# Altium footprint library 6903 6718 xx 72.PcbLib: 12 footprints
Each footprint in its own frame and in the unit in brackets; x right, y up, seen from the top. Pads: shape width x height; smd on the part's side, far side on the other; paste and mask are expansions set on the pad; w line width, h text height; cw(c..) or ccw(c..) is an arc to the next point about the centre after c.
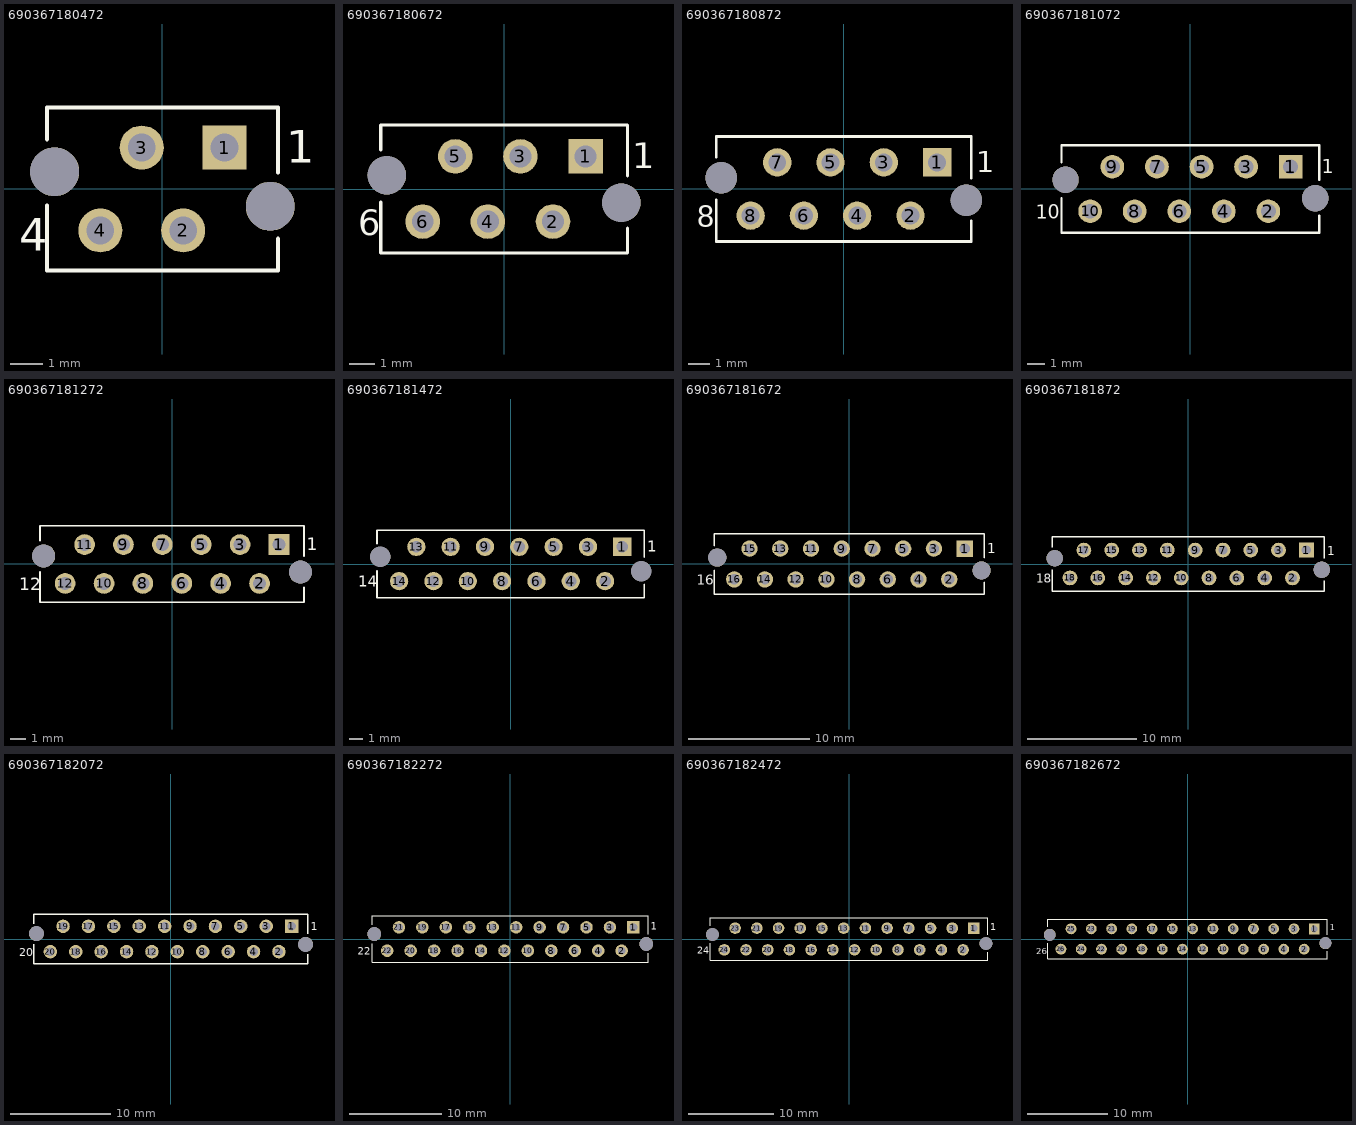
[diagram p0: the footprints below, top view; thin cyan lines are the x and y axes]

## 690367180472 [mm] "4 pins, straight"
height 4
pads (6):
  rect 1.35x1.35 hole 0.85: 1(1.905,1.27)
  round 1.35 hole 0.85: 2(0.635,-1.27) 3(-0.635,1.27) 4(-1.905,-1.27)
  round 1.5 hole 1.5 unplated: ""(-3.305,0.53) ""(3.305,-0.53)
Top Overlay:
  lines w0.127: -3.54,-0.508 -3.54,-2.5 3.54,-2.5 3.54,-1.524 ; -3.54,1.524 -3.54,2.5 3.54,2.5 3.54,0.508
  text "1" at 3.8,0.8 h1
  text "4" at -4.4,-1.9 h1
3D body: height 4.01, standoff -3.09, extent -3.54,-2.5 3.54,2.5

## 690367180672 [mm] "6 pins, straight"
height 4
pads (8):
  rect 1.35x1.35 hole 0.85: 1(3.175,1.27)
  round 1.35 hole 0.85: 2(1.905,-1.27) 3(0.635,1.27) 4(-0.635,-1.27) 5(-1.905,1.27) 6(-3.175,-1.27)
  round 1.5 hole 1.5 unplated: ""(-4.575,0.53) ""(4.575,-0.53)
Top Overlay:
  lines w0.127: -4.81,-0.508 -4.81,-2.5 4.81,-2.5 4.81,-1.524 ; -4.81,1.524 -4.81,2.5 4.81,2.5 4.81,0.508
  text "6" at -5.7,-1.8 h1
  text "1" at 5,0.8 h1
3D body: height 4.01, standoff -3.09, extent -4.81,-2.5 4.81,2.5

## 690367180872 [mm] "8 pins, straight"
height 4
pads (10):
  rect 1.35x1.35 hole 0.85: 1(4.445,1.27)
  round 1.35 hole 0.85: 2(3.175,-1.27) 3(1.905,1.27) 4(0.635,-1.27) 5(-0.635,1.27) 6(-1.905,-1.27) 7(-3.175,1.27) 8(-4.445,-1.27)
  round 1.5 hole 1.5 unplated: ""(-5.845,0.53) ""(5.845,-0.53)
Top Overlay:
  lines w0.127: -6.08,-0.508 -6.08,-2.5 6.08,-2.5 6.08,-1.524 ; -6.08,1.524 -6.08,2.5 6.08,2.5 6.08,0.508
  text "1" at 6.3,0.8 h1
  text "8" at -7,-1.8 h1
3D body: height 4.01, standoff -3.09, extent -6.08,-2.5 6.08,2.5

## 690367181072 [mm] "10 pins, straight"
height 4
pads (12):
  rect 1.35x1.35 hole 0.85: 1(5.715,1.27)
  round 1.35 hole 0.85: 2(4.445,-1.27) 3(3.175,1.27) 4(1.905,-1.27) 5(0.635,1.27) 6(-0.635,-1.27) 7(-1.905,1.27) 8(-3.175,-1.27) 9(-4.445,1.27) 10(-5.715,-1.27)
  round 1.5 hole 1.5 unplated: ""(-7.115,0.53) ""(7.115,-0.53)
Top Overlay:
  lines w0.127: -7.35,-0.508 -7.35,-2.5 7.35,-2.5 7.35,-1.524 ; -7.35,1.524 -7.35,2.5 7.35,2.5 7.35,0.508
  text "10" at -8.8,-1.7 h0.8
  text "1" at 7.5,0.9 h0.8
3D body: height 4.01, standoff -3.09, extent -7.352,-2.5 7.351,2.5

## 690367181272 [mm] "12 pins, straight"
height 4
pads (14):
  rect 1.35x1.35 hole 0.85: 1(6.985,1.27)
  round 1.35 hole 0.85: 2(5.715,-1.27) 3(4.445,1.27) 4(3.175,-1.27) 5(1.905,1.27) 6(0.635,-1.27) 7(-0.635,1.27) 8(-1.905,-1.27) 9(-3.175,1.27) 10(-4.445,-1.27) 11(-5.715,1.27) 12(-6.985,-1.27)
  round 1.5 hole 1.5 unplated: ""(-8.385,0.53) ""(8.385,-0.53)
Top Overlay:
  lines w0.127: -8.62,-0.508 -8.62,-2.5 8.62,-2.5 8.62,-1.524 ; -8.62,1.524 -8.62,2.5 8.62,2.5 8.62,0.508
  text "1" at 8.8,0.9 h0.8
  text "12" at -10,-1.7 h0.8
3D body: height 4.01, standoff -3.09, extent -8.62,-2.5 8.62,2.5

## 690367181472 [mm] "14 pins, straight"
height 4
pads (16):
  rect 1.35x1.35 hole 0.85: 1(8.255,1.27)
  round 1.35 hole 0.85: 2(6.985,-1.27) 3(5.715,1.27) 4(4.445,-1.27) 5(3.175,1.27) 6(1.905,-1.27) 7(0.635,1.27) 8(-0.635,-1.27) 9(-1.905,1.27) 10(-3.175,-1.27) 11(-4.445,1.27) 12(-5.715,-1.27) 13(-6.985,1.27) 14(-8.255,-1.27)
  round 1.5 hole 1.5 unplated: ""(-9.655,0.53) ""(9.655,-0.53)
Top Overlay:
  lines w0.127: -9.89,-0.508 -9.89,-2.5 9.89,-2.5 9.89,-1.524 ; -9.89,1.524 -9.89,2.5 9.89,2.5 9.89,0.508
  text "1" at 10.1,0.9 h0.8
  text "14" at -11.3,-1.7 h0.8
3D body: height 4.01, standoff -3.09, extent -9.89,-2.5 9.89,2.5

## 690367181672 [mm] "16 pins, straight"
height 4
pads (18):
  rect 1.35x1.35 hole 0.85: 1(9.525,1.27)
  round 1.35 hole 0.85: 2(8.255,-1.27) 3(6.985,1.27) 4(5.715,-1.27) 5(4.445,1.27) 6(3.175,-1.27) 7(1.905,1.27) 8(0.635,-1.27) 9(-0.635,1.27) 10(-1.905,-1.27) 11(-3.175,1.27) 12(-4.445,-1.27) 13(-5.715,1.27) 14(-6.985,-1.27) 15(-8.255,1.27) 16(-9.525,-1.27)
  round 1.5 hole 1.5 unplated: ""(-10.925,0.53) ""(10.925,-0.53)
Top Overlay:
  lines w0.127: -11.16,-0.508 -11.16,-2.5 11.16,-2.5 11.16,-1.524 ; -11.16,1.524 -11.16,2.5 11.16,2.5 11.16,0.508
  text "16" at -12.6,-1.7 h0.8
  text "1" at 11.4,0.9 h0.8
3D body: height 4.01, standoff -3.09, extent -11.16,-2.5 11.16,2.5

## 690367181872 [mm] "18 pins, straight"
height 4
pads (20):
  rect 1.35x1.35 hole 0.85: 1(10.795,1.27)
  round 1.35 hole 0.85: 2(9.525,-1.27) 3(8.255,1.27) 4(6.985,-1.27) 5(5.715,1.27) 6(4.445,-1.27) 7(3.175,1.27) 8(1.905,-1.27) 9(0.635,1.27) 10(-0.635,-1.27) 11(-1.905,1.27) 12(-3.175,-1.27) 13(-4.445,1.27) 14(-5.715,-1.27) 15(-6.985,1.27) 16(-8.255,-1.27) 17(-9.525,1.27) 18(-10.795,-1.27)
  round 1.5 hole 1.5 unplated: ""(-12.195,0.53) ""(12.195,-0.53)
Top Overlay:
  lines w0.127: -12.43,-0.508 -12.43,-2.5 12.43,-2.5 12.43,-1.524 ; -12.43,1.524 -12.43,2.5 12.43,2.5 12.43,0.508
  text "18" at -13.9,-1.7 h0.8
  text "1" at 12.7,0.8 h0.8
3D body: height 4.01, standoff -3.09, extent -12.43,-2.5 12.43,2.5

## 690367182072 [mm] "20 pins, straight"
height 4
pads (22):
  rect 1.35x1.35 hole 0.85: 1(12.065,1.27)
  round 1.35 hole 0.85: 2(10.795,-1.27) 3(9.525,1.27) 4(8.255,-1.27) 5(6.985,1.27) 6(5.715,-1.27) 7(4.445,1.27) 8(3.175,-1.27) 9(1.905,1.27) 10(0.635,-1.27) 11(-0.635,1.27) 12(-1.905,-1.27) 13(-3.175,1.27) 14(-4.445,-1.27) 15(-5.715,1.27) 16(-6.985,-1.27) 17(-8.255,1.27) 18(-9.525,-1.27) 19(-10.795,1.27) 20(-12.065,-1.27)
  round 1.5 hole 1.5 unplated: ""(-13.465,0.53) ""(13.465,-0.53)
Top Overlay:
  lines w0.127: -13.7,-0.508 -13.7,-2.5 13.7,-2.5 13.7,-1.524 ; -13.7,1.524 -13.7,2.5 13.7,2.5 13.7,0.508
  text "20" at -15.2,-1.7 h0.8
  text "1" at 14,0.9 h0.8
3D body: height 4.01, standoff -3.09, extent -13.7,-2.5 13.7,2.5

## 690367182272 [mm] "22 pins, straight"
height 4
pads (24):
  rect 1.35x1.35 hole 0.85: 1(13.335,1.27)
  round 1.35 hole 0.85: 2(12.065,-1.27) 3(10.795,1.27) 4(9.525,-1.27) 5(8.255,1.27) 6(6.985,-1.27) 7(5.715,1.27) 8(4.445,-1.27) 9(3.175,1.27) 10(1.905,-1.27) 11(0.635,1.27) 12(-0.635,-1.27) 13(-1.905,1.27) 14(-3.175,-1.27) 15(-4.445,1.27) 16(-5.715,-1.27) 17(-6.985,1.27) 18(-8.255,-1.27) 19(-9.525,1.27) 20(-10.795,-1.27) 21(-12.065,1.27) 22(-13.335,-1.27)
  round 1.5 hole 1.5 unplated: ""(-14.735,0.53) ""(14.735,-0.53)
Top Overlay:
  lines w0.127: -14.97,-0.508 -14.97,-2.5 14.97,-2.5 14.97,-1.524 ; -14.97,1.524 -14.97,2.5 14.97,2.5 14.97,0.508
  text "1" at 15.2,1 h0.8
  text "22" at -16.5,-1.7 h0.8
3D body: height 4.01, standoff -3.09, extent -14.97,-2.5 14.97,2.5

## 690367182472 [mm] "24 pins, straight"
height 4
pads (26):
  rect 1.35x1.35 hole 0.85: 1(14.605,1.27)
  round 1.35 hole 0.85: 2(13.335,-1.27) 3(12.065,1.27) 4(10.795,-1.27) 5(9.525,1.27) 6(8.255,-1.27) 7(6.985,1.27) 8(5.715,-1.27) 9(4.445,1.27) 10(3.175,-1.27) 11(1.905,1.27) 12(0.635,-1.27) 13(-0.635,1.27) 14(-1.905,-1.27) 15(-3.175,1.27) 16(-4.445,-1.27) 17(-5.715,1.27) 18(-6.985,-1.27) 19(-8.255,1.27) 20(-9.525,-1.27) 21(-10.795,1.27) 22(-12.065,-1.27) 23(-13.335,1.27) 24(-14.605,-1.27)
  round 1.5 hole 1.5 unplated: ""(-16.005,0.53) ""(16.005,-0.53)
Top Overlay:
  lines w0.127: -16.24,-0.508 -16.24,-2.5 16.24,-2.5 16.24,-1.524 ; -16.24,1.524 -16.24,2.5 16.24,2.5 16.24,0.508
  text "1" at 16.5,1 h0.8
  text "24" at -17.8,-1.7 h0.8
3D body: height 4.01, standoff -3.09, extent -16.24,-2.5 16.24,2.5

## 690367182672 [mm] "26 pins, straight"
height 4
pads (28):
  rect 1.35x1.35 hole 0.85: 1(15.875,1.27)
  round 1.35 hole 0.85: 2(14.605,-1.27) 3(13.335,1.27) 4(12.065,-1.27) 5(10.795,1.27) 6(9.525,-1.27) 7(8.255,1.27) 8(6.985,-1.27) 9(5.715,1.27) 10(4.445,-1.27) 11(3.175,1.27) 12(1.905,-1.27) 13(0.635,1.27) 14(-0.635,-1.27) 15(-1.905,1.27) 16(-3.175,-1.27) 17(-4.445,1.27) 18(-5.715,-1.27) 19(-6.985,1.27) 20(-8.255,-1.27) 21(-9.525,1.27) 22(-10.795,-1.27) 23(-12.065,1.27) 24(-13.335,-1.27) 25(-14.605,1.27) 26(-15.875,-1.27)
  round 1.5 hole 1.5 unplated: ""(-17.275,0.53) ""(17.275,-0.53)
Top Overlay:
  lines w0.127: -17.51,-0.508 -17.51,-2.5 17.51,-2.5 17.51,-1.524 ; -17.51,1.524 -17.51,2.5 17.51,2.5 17.51,0.508
  text "1" at 17.8,1.1 h0.8
  text "26" at -19,-1.9 h0.8
3D body: height 4.01, standoff -3.09, extent -17.51,-2.5 17.51,2.5